# EAGLE library part GMSTBV8 (library Copy of CON_PHOENIX_508)
PHOENIX
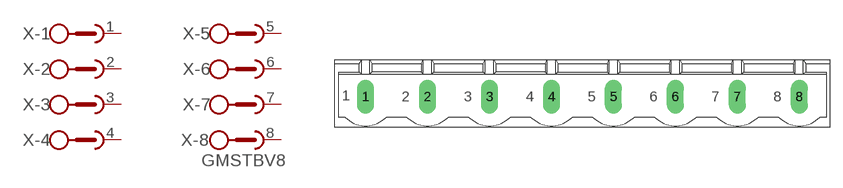
[diagram p8: symbol with the pads of GMSTBV8; footprint GMSTBV8]

Designator prefix X; gates -1=SKB -2=SKB -3=SKB -4=SKB -5=SKB -6=SKB -7=SKB -8=SKBV

## GMSTBV8  [GMSTBV8]
1  -1:1  pas
2  -2:1  pas
3  -3:1  pas
4  -4:1  pas
5  -5:1  pas
6  -6:1  pas
7  -7:1  pas
8  -8:1  pas

## Footprint GMSTBV8 (pad centres in mm)
PHOENIX
drill 1.397 long: 1 -26.67,0; 2 -19.05,0; 3 -11.43,0; 4 -3.81,0; 5 3.81,0; 6 11.43,0; 7 19.05,0; 8 26.67,0